# Altium schematic symbol library 01020071Z.SchLib: 1 symbol
Pins are listed as number, name and electrical type; pins without a type are passive.

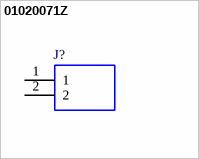
[diagram p0: symbol 01020071Z]

## 01020071Z
designator J?
LITTELFUSE - 01020071Z - FUSE HOLDER, 6.3 x 32MM, PCB MOUNT; Mouser Part Number: 576-01020071Z; Mouser Price/Stock: https://www.mouser.co.uk/ProductDetail/Littelfuse/01020071Z?qs=hgmQaE9nnAzCBYDQcIezzw%3D%3D; Manufacturer_Name: LITTELFUSE; Manufacturer_Part_Number: 01020071Z; Datasheet Link: http://www.littelfuse.com/~/media/electronics/datasheets/fuse_clips/littelfuse_fuse_clip_102_122_datasheet.pdf.pdf
footprint 01020071Z-FUSE-CLIP
pins: 1, 2